# Altium schematic symbol library SCH - POWER - SWITCHMODE - TI TPS54622RHL.SchLib: 1 symbol
Pins are listed as number, name and electrical type; pins without a type are passive.

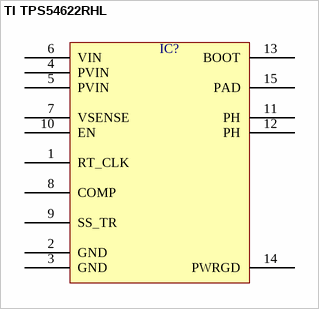
[diagram p0: symbol TI TPS54622RHL]

## TI TPS54622RHL
designator IC?  (value not drawn)
pins: 1 RT_CLK, 2 GND, 3 GND, 4 PVIN, 5 PVIN, 6 VIN, 7 VSENSE, 8 COMP, 9 SS_TR, 10 EN, 11 PH, 12 PH, 13 BOOT, 14 PWRGD, 15 PAD